# EAGLE library part AAT1217 (library spietz-library-2)
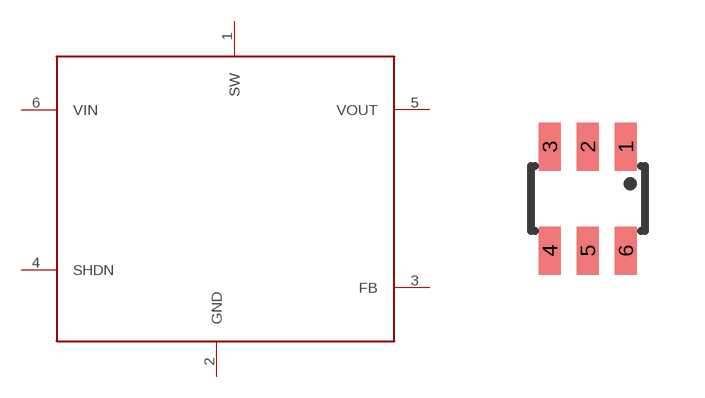
[diagram p10: symbol with the pads of SSOT23-6; footprint SSOT23-6]

Designator prefix -

## AAT1217  [SSOT23-6]
1  SW
2  GND
3  FB
4  SHDN
5  VOUT
6  VIN

## Footprint SSOT23-6 (pad centres in mm)
smd 0.55 x 1.2: 1 0.95,1.3; 2 0,1.3; 3 -0.95,1.3; 4 -0.95,-1.3; 5 0,-1.3; 6 0.95,-1.3